# Altium integrated library Linear Technology Power Management Power-Over-Ethernet (PoE) Interface Controllers.IntLib: 174 symbols (part 1 of 16)
Pins are listed as number, name and electrical type; pins without a type are passive.

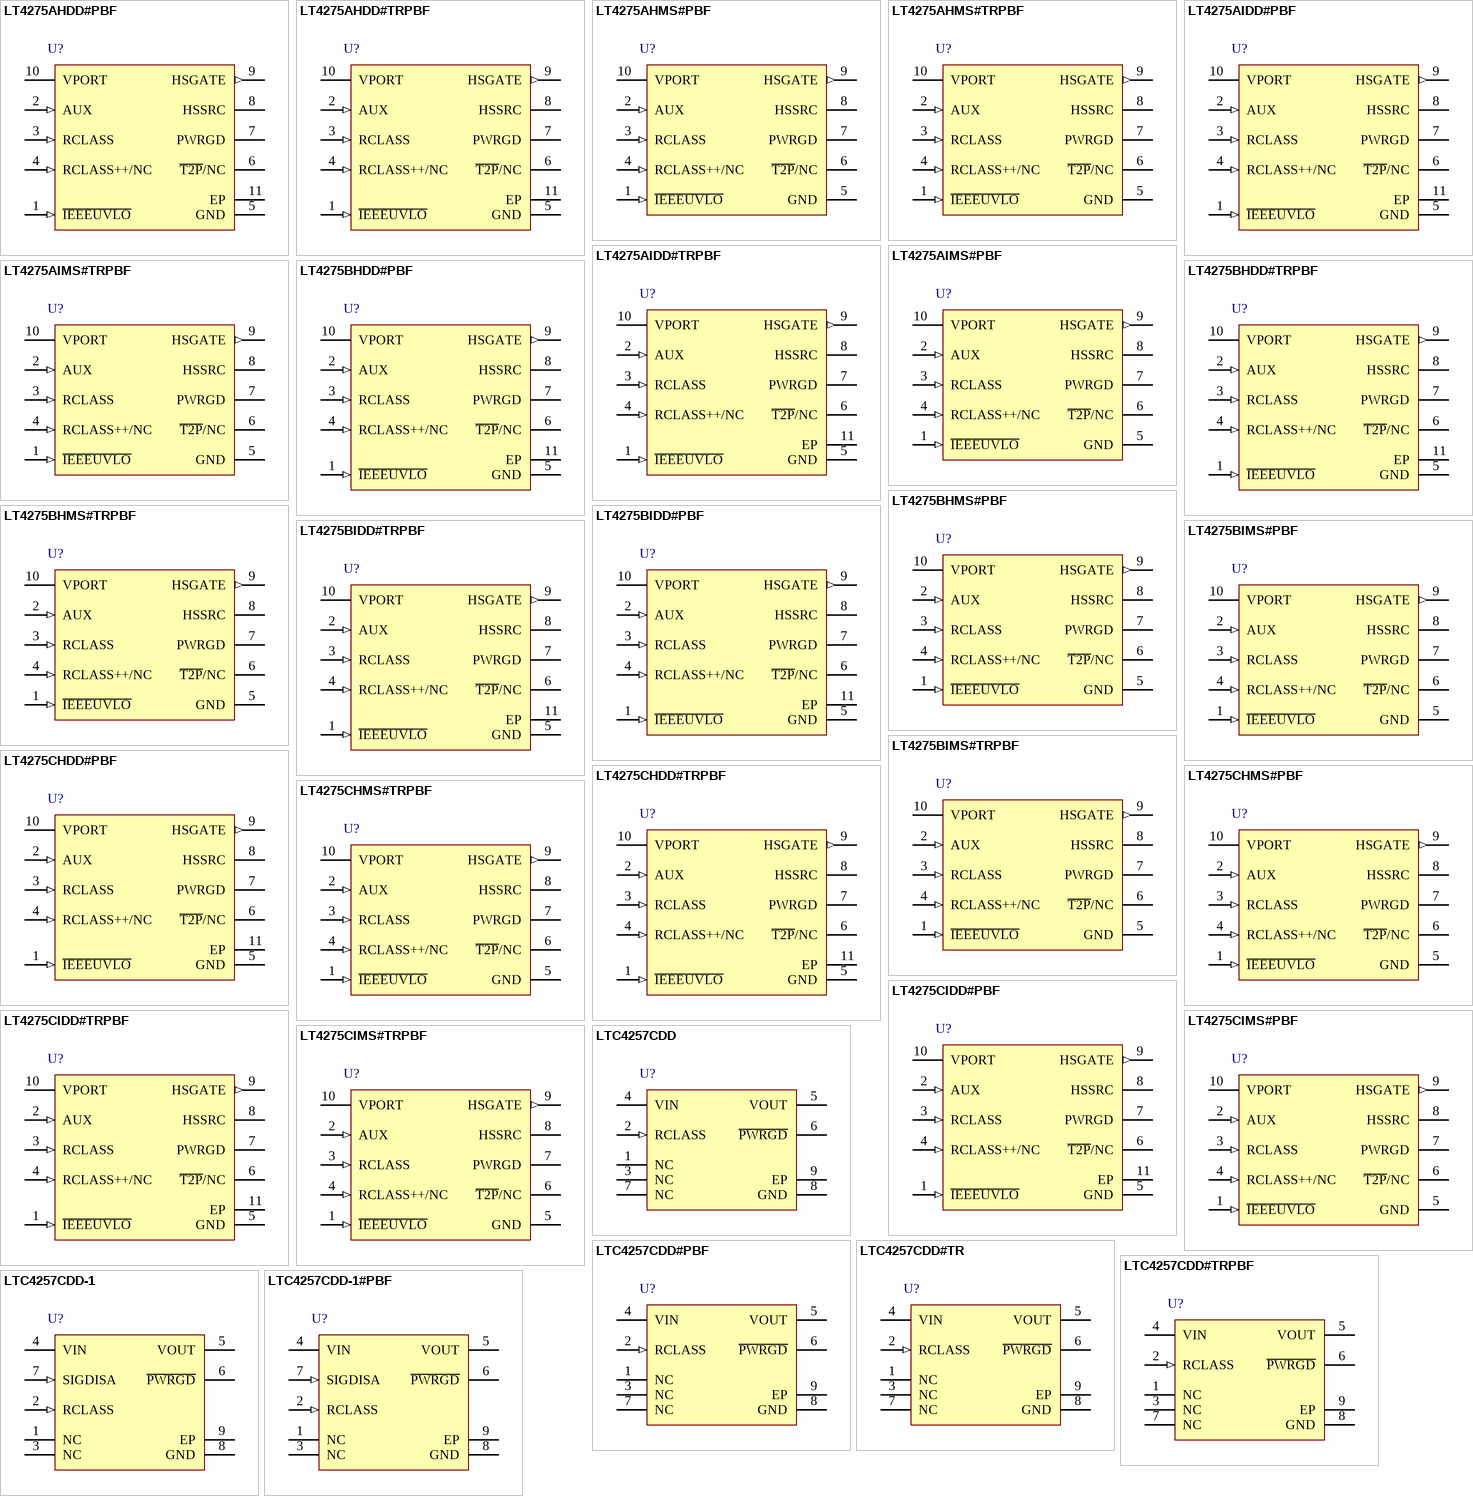
[diagram p0: symbols LT4275AHDD#PBF to LTC4257CDD-1#PBF]

## LT4275AHDD#PBF
designator U?
LTPoE++ / PoE+ / PoE PD Controller, 10-pin SON (DD-10), -40 to 125 degC, Pb-Free; Manufacturer: Linear Technology; PartNumber: LT4275AHDD#PBF; Channels(#): 1; Extended Temp: I, H; Max Power(W): 90; PoE Type: 1, 2, LTPoE++; PackageVersion: Rev. C, 06/2010; PackageReference: DD-10; PackageDescription: 10-Pin Plastic DFN, Body 3 x 3 mm, Pitch 0.5 mm; Supplier 1: Digi-Key; Supplier Part Number 1: LT4275AHDD#PBF-ND; Supplier 2: Newark; Supplier Part Number 2: 27W9561; PSE/PD: PD; RoHS: TRUE; Mounting Technology: Surface Mount; Code_JEDEC: MO-229; ComponentLink1Description: Manufacturer URL; ComponentLink1URL: http://www.linear.com/; ComponentLink2Description: Datasheet; ComponentLink2URL: http://cds.linear.com/docs/en/datasheet/4275f.pdf; ComponentLink3Description: Package Specification; ComponentLink3URL: http://cds.linear.com/docs/en/packaging/DFN_10_05-08-1699.pdf
footprint LT-DD-10_V (SON, 10-Leads, Body 3x3mm, Pitch 0.5mm, Thermal Pad 2.38x1.65mm)
pins: 1 ~{IEEEUVLO} (in) "I\E\E\E\U\V\L\O\ (Pin 1): Hot Swap Turn-on Threshold Level Control. Connect to ground for IEEE compliant turn-on and turn-off (UVLO) voltage thresholds. Leave open for lower turn-on and turn-off voltage thresholds.", 2 AUX (in) "AUX (Pin 2): Auxiliary Sense. Assert AUX via a resistive divider from the auxiliary power input to set the voltage at which the auxiliary supply takes over. Asserting AUX pulls down HSGATE, disconnects the signature (See Datasheet)", 3 RCLASS (in) "RCLASS (Pin 3): Programmable PoE Classification Resistor. See Table 1.", 4 RCLASS++/NC (in) "RCLASS++ (Pin 4, LT4275A Only): Programmable LTPoE++ Classification Resistor. This pin is not connected on the LT4275B/LT4275C. See Table 1.", 5 GND (power) "GND (Pin 5): Ground Pin. Must be soldered to PCB GND.", 6 ~{T2P}/NC (oc) "T\2\P\ (Pin 6, LT4275A/LT4275B Only): PSE Type Indicator, Open-Drain Output. T\2\P\ floats for a 13W PSE. T\2\P\ pulls down for a 25.5W PSE. T\2\P\ pulls down at fT\2\P\ with a 50% (typical) duty cycle to indicate the (See Datasheet)", 7 PWRGD (oc) "PWRGD (Pin 7): Power Good Indicator, Open-Drain Output. Pulls down during VCLASS and inrush.", 8 HSSRC "HSSRC (Pin 8): External Hot Swap MOSFET Source. Connect to source of the external MOSFET.", 9 HSGATE (out) "HSGATE (Pin 9): External Hot Swap MOSFET Gate Control, Output. Connect to gate of the external MOSFET.", 10 VPORT (power) "VPORT (Pin 10): PD interface upper power rail and external Hot Swap MOSFET drain connection.", 11 EP (power) "Exposed Pad (Pin 11, DFN Package Only): GND. Must be soldered to PCB GND."

## LT4275AHDD#TRPBF
designator U?
LTPoE++ / PoE+ / PoE PD Controller, 10-pin SON (DD-10), -40 to 125 degC, Pb-Free, Tape and Reel; Manufacturer: Linear Technology; PartNumber: LT4275AHDD#TRPBF; Channels(#): 1; Extended Temp: I, H; Max Power(W): 90; PoE Type: 1, 2, LTPoE++; PackageVersion: Rev. C, 06/2010; PackageReference: DD-10; PackageDescription: 10-Pin Plastic DFN, Body 3 x 3 mm, Pitch 0.5 mm; Supplier 1: Digi-Key; Supplier Part Number 1: LT4275AHDD#TRPBF-ND; Supplier 2: Newark; Supplier Part Number 2: 27W9562; Packing: Tape and Reel; PSE/PD: PD; RoHS: TRUE; Mounting Technology: Surface Mount; Code_JEDEC: MO-229; ComponentLink1Description: Manufacturer URL; ComponentLink1URL: http://www.linear.com/; ComponentLink2Description: Datasheet; ComponentLink2URL: http://cds.linear.com/docs/en/datasheet/4275f.pdf; ComponentLink3Description: Package Specification; ComponentLink3URL: http://cds.linear.com/docs/en/packaging/DFN_10_05-08-1699.pdf
footprint LT-DD-10_V (SON, 10-Leads, Body 3x3mm, Pitch 0.5mm, Thermal Pad 2.38x1.65mm)
pins: 1 ~{IEEEUVLO} (in) "I\E\E\E\U\V\L\O\ (Pin 1): Hot Swap Turn-on Threshold Level Control. Connect to ground for IEEE compliant turn-on and turn-off (UVLO) voltage thresholds. Leave open for lower turn-on and turn-off voltage thresholds.", 2 AUX (in) "AUX (Pin 2): Auxiliary Sense. Assert AUX via a resistive divider from the auxiliary power input to set the voltage at which the auxiliary supply takes over. Asserting AUX pulls down HSGATE, disconnects the signature (See Datasheet)", 3 RCLASS (in) "RCLASS (Pin 3): Programmable PoE Classification Resistor. See Table 1.", 4 RCLASS++/NC (in) "RCLASS++ (Pin 4, LT4275A Only): Programmable LTPoE++ Classification Resistor. This pin is not connected on the LT4275B/LT4275C. See Table 1.", 5 GND (power) "GND (Pin 5): Ground Pin. Must be soldered to PCB GND.", 6 ~{T2P}/NC (oc) "T\2\P\ (Pin 6, LT4275A/LT4275B Only): PSE Type Indicator, Open-Drain Output. T\2\P\ floats for a 13W PSE. T\2\P\ pulls down for a 25.5W PSE. T\2\P\ pulls down at fT\2\P\ with a 50% (typical) duty cycle to indicate the (See Datasheet)", 7 PWRGD (oc) "PWRGD (Pin 7): Power Good Indicator, Open-Drain Output. Pulls down during VCLASS and inrush.", 8 HSSRC "HSSRC (Pin 8): External Hot Swap MOSFET Source. Connect to source of the external MOSFET.", 9 HSGATE (out) "HSGATE (Pin 9): External Hot Swap MOSFET Gate Control, Output. Connect to gate of the external MOSFET.", 10 VPORT (power) "VPORT (Pin 10): PD interface upper power rail and external Hot Swap MOSFET drain connection.", 11 EP (power) "Exposed Pad (Pin 11, DFN Package Only): GND. Must be soldered to PCB GND."

## LT4275AHMS#PBF
designator U?
LTPoE++ / PoE+ / PoE PD Controller, 10-pin SOP (MS-10), -40 to 125 degC, Pb-Free; Manufacturer: Linear Technology; PartNumber: LT4275AHMS#PBF; Channels(#): 1; Extended Temp: I, H; Max Power(W): 90; PoE Type: 1, 2, LTPoE++; PackageVersion: Rev. E, 06/2010; PackageReference: MS-10; PackageDescription: 10-Pin Plastic MSOP, Body 3 x 3 mm, Pitch 0.5 mm; Supplier 1: Digi-Key; Supplier Part Number 1: LT4275AHMS#PBF-ND; Supplier 2: Newark; Supplier Part Number 2: 27W9563; PSE/PD: PD; RoHS: TRUE; Mounting Technology: Surface Mount; ComponentLink1Description: Manufacturer URL; ComponentLink1URL: http://www.linear.com/; ComponentLink2Description: Datasheet; ComponentLink2URL: http://cds.linear.com/docs/en/datasheet/4275f.pdf; ComponentLink3Description: Package Specification; ComponentLink3URL: http://cds.linear.com/docs/en/packaging/05081661_F_MS.pdf
footprint LT-MS-10_N (SOP, 10-Leads, Body 3.1x3.1mm, Pitch 0.5mm, IPC Medium Density)
footprint LT-MS-10_L (SOP, 10-Leads, Body 3.1x3.1mm, Pitch 0.5mm, IPC High Density)
footprint LT-MS-10_M (SOP, 10-Leads, Body 3.1x3.1mm, Pitch 0.5mm, IPC Low Density)
pins: 1 ~{IEEEUVLO} (in) "IEEEUVLO (Pin 1): Hot Swap Turn-on Threshold Level Control. Connect to ground for IEEE compliant turn-on and turn-off (UVLO) voltage thresholds. Leave open for lower turn-on and turn-off voltage thresholds.", 2 AUX (in) "AUX (Pin 2): Auxiliary Sense. Assert AUX via a resistive divider from the auxiliary power input to set the voltage at which the auxiliary supply takes over. Asserting AUX pulls down HSGATE, disconnects the signature (See Datasheet)", 3 RCLASS (in) "RCLASS (Pin 3): Programmable PoE Classification Resistor. See Table 1.", 4 RCLASS++/NC (in) "RCLASS++ (Pin 4, LT4275A Only): Programmable LTPoE++ Classification Resistor. This pin is not connected on the LT4275B/LT4275C. See Table 1.", 5 GND (power) "GND (Pin 5): Ground Pin. Must be soldered to PCB GND.", 6 ~{T2P}/NC (oc) "T\2\P\ (Pin 6, LT4275A/LT4275B Only): PSE Type Indicator, Open-Drain Output. T\2\P\ floats for a 13W PSE. T\2\P\ pulls down for a 25.5W PSE. T\2\P\ pulls down at fT\2\P\ with a 50% (typical) duty cycle to indicate the (See Datasheet)", 7 PWRGD (oc) "PWRGD (Pin 7): Power Good Indicator, Open-Drain Output. Pulls down during VCLASS and inrush.", 8 HSSRC "HSSRC (Pin 8): External Hot Swap MOSFET Source. Connect to source of the external MOSFET.", 9 HSGATE (out) "HSGATE (Pin 9): External Hot Swap MOSFET Gate Control, Output. Connect to gate of the external MOSFET.", 10 VPORT (power) "VPORT (Pin 10): PD interface upper power rail and external Hot Swap MOSFET drain connection."

## LT4275AHMS#TRPBF
designator U?
LTPoE++ / PoE+ / PoE PD Controller, 10-pin SOP (MS-10), -40 to 125 degC, Pb-Free, Tape and Reel; Manufacturer: Linear Technology; PartNumber: LT4275AHMS#TRPBF; Channels(#): 1; Extended Temp: I, H; Max Power(W): 90; PoE Type: 1, 2, LTPoE++; PackageVersion: Rev. E, 06/2010; PackageReference: MS-10; PackageDescription: 10-Pin Plastic MSOP, Body 3 x 3 mm, Pitch 0.5 mm; Supplier 1: Digi-Key; Supplier Part Number 1: LT4275AHMS#TRPBF-ND; Supplier 2: Newark; Supplier Part Number 2: 27W9564; Packing: Tape and Reel; PSE/PD: PD; RoHS: TRUE; Mounting Technology: Surface Mount; ComponentLink1Description: Manufacturer URL; ComponentLink1URL: http://www.linear.com/; ComponentLink2Description: Datasheet; ComponentLink2URL: http://cds.linear.com/docs/en/datasheet/4275f.pdf; ComponentLink3Description: Package Specification; ComponentLink3URL: http://cds.linear.com/docs/en/packaging/05081661_F_MS.pdf
footprint LT-MS-10_N (SOP, 10-Leads, Body 3.1x3.1mm, Pitch 0.5mm, IPC Medium Density)
footprint LT-MS-10_L (SOP, 10-Leads, Body 3.1x3.1mm, Pitch 0.5mm, IPC High Density)
footprint LT-MS-10_M (SOP, 10-Leads, Body 3.1x3.1mm, Pitch 0.5mm, IPC Low Density)
pins: 1 ~{IEEEUVLO} (in) "IEEEUVLO (Pin 1): Hot Swap Turn-on Threshold Level Control. Connect to ground for IEEE compliant turn-on and turn-off (UVLO) voltage thresholds. Leave open for lower turn-on and turn-off voltage thresholds.", 2 AUX (in) "AUX (Pin 2): Auxiliary Sense. Assert AUX via a resistive divider from the auxiliary power input to set the voltage at which the auxiliary supply takes over. Asserting AUX pulls down HSGATE, disconnects the signature (See Datasheet)", 3 RCLASS (in) "RCLASS (Pin 3): Programmable PoE Classification Resistor. See Table 1.", 4 RCLASS++/NC (in) "RCLASS++ (Pin 4, LT4275A Only): Programmable LTPoE++ Classification Resistor. This pin is not connected on the LT4275B/LT4275C. See Table 1.", 5 GND (power) "GND (Pin 5): Ground Pin. Must be soldered to PCB GND.", 6 ~{T2P}/NC (oc) "T\2\P\ (Pin 6, LT4275A/LT4275B Only): PSE Type Indicator, Open-Drain Output. T\2\P\ floats for a 13W PSE. T\2\P\ pulls down for a 25.5W PSE. T\2\P\ pulls down at fT\2\P\ with a 50% (typical) duty cycle to indicate the (See Datasheet)", 7 PWRGD (oc) "PWRGD (Pin 7): Power Good Indicator, Open-Drain Output. Pulls down during VCLASS and inrush.", 8 HSSRC "HSSRC (Pin 8): External Hot Swap MOSFET Source. Connect to source of the external MOSFET.", 9 HSGATE (out) "HSGATE (Pin 9): External Hot Swap MOSFET Gate Control, Output. Connect to gate of the external MOSFET.", 10 VPORT (power) "VPORT (Pin 10): PD interface upper power rail and external Hot Swap MOSFET drain connection."

## LT4275AIDD#PBF
designator U?
LTPoE++ / PoE+ / PoE PD Controller, 10-pin SON (DD-10), -40 to 85 degC, Pb-Free; Manufacturer: Linear Technology; PartNumber: LT4275AIDD#PBF; Channels(#): 1; Extended Temp: I, H; Max Power(W): 90; PoE Type: 1, 2, LTPoE++; PackageVersion: Rev. C, 06/2010; PackageReference: DD-10; PackageDescription: 10-Pin Plastic DFN, Body 3 x 3 mm, Pitch 0.5 mm; Supplier 1: Digi-Key; Supplier Part Number 1: LT4275AIDD#PBF-ND; Supplier 2: Farnell; Supplier Part Number 2: 2148740; Supplier 3: Newark; Supplier Part Number 3: 27W9565; PSE/PD: PD; RoHS: TRUE; Mounting Technology: Surface Mount; Code_JEDEC: MO-229; ComponentLink1Description: Manufacturer URL; ComponentLink1URL: http://www.linear.com/; ComponentLink2Description: Datasheet; ComponentLink2URL: http://cds.linear.com/docs/en/datasheet/4275f.pdf; ComponentLink3Description: Package Specification; ComponentLink3URL: http://cds.linear.com/docs/en/packaging/DFN_10_05-08-1699.pdf
footprint LT-DD-10_V (SON, 10-Leads, Body 3x3mm, Pitch 0.5mm, Thermal Pad 2.38x1.65mm)
pins: 1 ~{IEEEUVLO} (in) "I\E\E\E\U\V\L\O\ (Pin 1): Hot Swap Turn-on Threshold Level Control. Connect to ground for IEEE compliant turn-on and turn-off (UVLO) voltage thresholds. Leave open for lower turn-on and turn-off voltage thresholds.", 2 AUX (in) "AUX (Pin 2): Auxiliary Sense. Assert AUX via a resistive divider from the auxiliary power input to set the voltage at which the auxiliary supply takes over. Asserting AUX pulls down HSGATE, disconnects the signature (See Datasheet)", 3 RCLASS (in) "RCLASS (Pin 3): Programmable PoE Classification Resistor. See Table 1.", 4 RCLASS++/NC (in) "RCLASS++ (Pin 4, LT4275A Only): Programmable LTPoE++ Classification Resistor. This pin is not connected on the LT4275B/LT4275C. See Table 1.", 5 GND (power) "GND (Pin 5): Ground Pin. Must be soldered to PCB GND.", 6 ~{T2P}/NC (oc) "T\2\P\ (Pin 6, LT4275A/LT4275B Only): PSE Type Indicator, Open-Drain Output. T\2\P\ floats for a 13W PSE. T\2\P\ pulls down for a 25.5W PSE. T\2\P\ pulls down at fT\2\P\ with a 50% (typical) duty cycle to indicate the (See Datasheet)", 7 PWRGD (oc) "PWRGD (Pin 7): Power Good Indicator, Open-Drain Output. Pulls down during VCLASS and inrush.", 8 HSSRC "HSSRC (Pin 8): External Hot Swap MOSFET Source. Connect to source of the external MOSFET.", 9 HSGATE (out) "HSGATE (Pin 9): External Hot Swap MOSFET Gate Control, Output. Connect to gate of the external MOSFET.", 10 VPORT (power) "VPORT (Pin 10): PD interface upper power rail and external Hot Swap MOSFET drain connection.", 11 EP (power) "Exposed Pad (Pin 11, DFN Package Only): GND. Must be soldered to PCB GND."

## LT4275AIDD#TRPBF
designator U?
LTPoE++ / PoE+ / PoE PD Controller, 10-pin SON (DD-10), -40 to 85 degC, Pb-Free, Tape and Reel; Manufacturer: Linear Technology; PartNumber: LT4275AIDD#TRPBF; Channels(#): 1; Extended Temp: I, H; Max Power(W): 90; PoE Type: 1, 2, LTPoE++; PackageVersion: Rev. C, 06/2010; PackageReference: DD-10; PackageDescription: 10-Pin Plastic DFN, Body 3 x 3 mm, Pitch 0.5 mm; Supplier 1: Digi-Key; Supplier Part Number 1: LT4275AIDD#TRPBF-ND; Supplier 2: Newark; Supplier Part Number 2: 27W9566; Packing: Tape and Reel; PSE/PD: PD; RoHS: TRUE; Mounting Technology: Surface Mount; Code_JEDEC: MO-229; ComponentLink1Description: Manufacturer URL; ComponentLink1URL: http://www.linear.com/; ComponentLink2Description: Datasheet; ComponentLink2URL: http://cds.linear.com/docs/en/datasheet/4275f.pdf; ComponentLink3Description: Package Specification; ComponentLink3URL: http://cds.linear.com/docs/en/packaging/DFN_10_05-08-1699.pdf
footprint LT-DD-10_V (SON, 10-Leads, Body 3x3mm, Pitch 0.5mm, Thermal Pad 2.38x1.65mm)
pins: 1 ~{IEEEUVLO} (in) "I\E\E\E\U\V\L\O\ (Pin 1): Hot Swap Turn-on Threshold Level Control. Connect to ground for IEEE compliant turn-on and turn-off (UVLO) voltage thresholds. Leave open for lower turn-on and turn-off voltage thresholds.", 2 AUX (in) "AUX (Pin 2): Auxiliary Sense. Assert AUX via a resistive divider from the auxiliary power input to set the voltage at which the auxiliary supply takes over. Asserting AUX pulls down HSGATE, disconnects the signature (See Datasheet)", 3 RCLASS (in) "RCLASS (Pin 3): Programmable PoE Classification Resistor. See Table 1.", 4 RCLASS++/NC (in) "RCLASS++ (Pin 4, LT4275A Only): Programmable LTPoE++ Classification Resistor. This pin is not connected on the LT4275B/LT4275C. See Table 1.", 5 GND (power) "GND (Pin 5): Ground Pin. Must be soldered to PCB GND.", 6 ~{T2P}/NC (oc) "T\2\P\ (Pin 6, LT4275A/LT4275B Only): PSE Type Indicator, Open-Drain Output. T\2\P\ floats for a 13W PSE. T\2\P\ pulls down for a 25.5W PSE. T\2\P\ pulls down at fT\2\P\ with a 50% (typical) duty cycle to indicate the (See Datasheet)", 7 PWRGD (oc) "PWRGD (Pin 7): Power Good Indicator, Open-Drain Output. Pulls down during VCLASS and inrush.", 8 HSSRC "HSSRC (Pin 8): External Hot Swap MOSFET Source. Connect to source of the external MOSFET.", 9 HSGATE (out) "HSGATE (Pin 9): External Hot Swap MOSFET Gate Control, Output. Connect to gate of the external MOSFET.", 10 VPORT (power) "VPORT (Pin 10): PD interface upper power rail and external Hot Swap MOSFET drain connection.", 11 EP (power) "Exposed Pad (Pin 11, DFN Package Only): GND. Must be soldered to PCB GND."

## LT4275AIMS#PBF
designator U?
LTPoE++ / PoE+ / PoE PD Controller, 10-pin SOP (MS-10), -40 to 85 degC, Pb-Free; Manufacturer: Linear Technology; PartNumber: LT4275AIMS#PBF; Channels(#): 1; Extended Temp: I, H; Max Power(W): 90; PoE Type: 1, 2, LTPoE++; PackageVersion: Rev. E, 06/2010; PackageReference: MS-10; PackageDescription: 10-Pin Plastic MSOP, Body 3 x 3 mm, Pitch 0.5 mm; Supplier 1: Digi-Key; Supplier Part Number 1: LT4275AIMS#PBF-ND; Supplier 2: Farnell; Supplier Part Number 2: 2148741; Supplier 3: Newark; Supplier Part Number 3: 27W9567; PSE/PD: PD; RoHS: TRUE; Mounting Technology: Surface Mount; ComponentLink1Description: Manufacturer URL; ComponentLink1URL: http://www.linear.com/; ComponentLink2Description: Datasheet; ComponentLink2URL: http://cds.linear.com/docs/en/datasheet/4275f.pdf; ComponentLink3Description: Package Specification; ComponentLink3URL: http://cds.linear.com/docs/en/packaging/05081661_F_MS.pdf
footprint LT-MS-10_N (SOP, 10-Leads, Body 3.1x3.1mm, Pitch 0.5mm, IPC Medium Density)
footprint LT-MS-10_L (SOP, 10-Leads, Body 3.1x3.1mm, Pitch 0.5mm, IPC High Density)
footprint LT-MS-10_M (SOP, 10-Leads, Body 3.1x3.1mm, Pitch 0.5mm, IPC Low Density)
pins: 1 ~{IEEEUVLO} (in) "IEEEUVLO (Pin 1): Hot Swap Turn-on Threshold Level Control. Connect to ground for IEEE compliant turn-on and turn-off (UVLO) voltage thresholds. Leave open for lower turn-on and turn-off voltage thresholds.", 2 AUX (in) "AUX (Pin 2): Auxiliary Sense. Assert AUX via a resistive divider from the auxiliary power input to set the voltage at which the auxiliary supply takes over. Asserting AUX pulls down HSGATE, disconnects the signature (See Datasheet)", 3 RCLASS (in) "RCLASS (Pin 3): Programmable PoE Classification Resistor. See Table 1.", 4 RCLASS++/NC (in) "RCLASS++ (Pin 4, LT4275A Only): Programmable LTPoE++ Classification Resistor. This pin is not connected on the LT4275B/LT4275C. See Table 1.", 5 GND (power) "GND (Pin 5): Ground Pin. Must be soldered to PCB GND.", 6 ~{T2P}/NC (oc) "T\2\P\ (Pin 6, LT4275A/LT4275B Only): PSE Type Indicator, Open-Drain Output. T\2\P\ floats for a 13W PSE. T\2\P\ pulls down for a 25.5W PSE. T\2\P\ pulls down at fT\2\P\ with a 50% (typical) duty cycle to indicate the (See Datasheet)", 7 PWRGD (oc) "PWRGD (Pin 7): Power Good Indicator, Open-Drain Output. Pulls down during VCLASS and inrush.", 8 HSSRC "HSSRC (Pin 8): External Hot Swap MOSFET Source. Connect to source of the external MOSFET.", 9 HSGATE (out) "HSGATE (Pin 9): External Hot Swap MOSFET Gate Control, Output. Connect to gate of the external MOSFET.", 10 VPORT (power) "VPORT (Pin 10): PD interface upper power rail and external Hot Swap MOSFET drain connection."

## LT4275AIMS#TRPBF
designator U?
LTPoE++ / PoE+ / PoE PD Controller, 10-pin SOP (MS-10), -40 to 85 degC, Pb-Free, Tape and Reel; Manufacturer: Linear Technology; PartNumber: LT4275AIMS#TRPBF; Channels(#): 1; Extended Temp: I, H; Max Power(W): 90; PoE Type: 1, 2, LTPoE++; PackageVersion: Rev. E, 06/2010; PackageReference: MS-10; PackageDescription: 10-Pin Plastic MSOP, Body 3 x 3 mm, Pitch 0.5 mm; Supplier 1: Digi-Key; Supplier Part Number 1: LT4275AIMS#TRPBF-ND; Supplier 2: Newark; Supplier Part Number 2: 27W9568; Packing: Tape and Reel; PSE/PD: PD; RoHS: TRUE; Mounting Technology: Surface Mount; ComponentLink1Description: Manufacturer URL; ComponentLink1URL: http://www.linear.com/; ComponentLink2Description: Datasheet; ComponentLink2URL: http://cds.linear.com/docs/en/datasheet/4275f.pdf; ComponentLink3Description: Package Specification; ComponentLink3URL: http://cds.linear.com/docs/en/packaging/05081661_F_MS.pdf
footprint LT-MS-10_N (SOP, 10-Leads, Body 3.1x3.1mm, Pitch 0.5mm, IPC Medium Density)
footprint LT-MS-10_L (SOP, 10-Leads, Body 3.1x3.1mm, Pitch 0.5mm, IPC High Density)
footprint LT-MS-10_M (SOP, 10-Leads, Body 3.1x3.1mm, Pitch 0.5mm, IPC Low Density)
pins: 1 ~{IEEEUVLO} (in) "IEEEUVLO (Pin 1): Hot Swap Turn-on Threshold Level Control. Connect to ground for IEEE compliant turn-on and turn-off (UVLO) voltage thresholds. Leave open for lower turn-on and turn-off voltage thresholds.", 2 AUX (in) "AUX (Pin 2): Auxiliary Sense. Assert AUX via a resistive divider from the auxiliary power input to set the voltage at which the auxiliary supply takes over. Asserting AUX pulls down HSGATE, disconnects the signature (See Datasheet)", 3 RCLASS (in) "RCLASS (Pin 3): Programmable PoE Classification Resistor. See Table 1.", 4 RCLASS++/NC (in) "RCLASS++ (Pin 4, LT4275A Only): Programmable LTPoE++ Classification Resistor. This pin is not connected on the LT4275B/LT4275C. See Table 1.", 5 GND (power) "GND (Pin 5): Ground Pin. Must be soldered to PCB GND.", 6 ~{T2P}/NC (oc) "T\2\P\ (Pin 6, LT4275A/LT4275B Only): PSE Type Indicator, Open-Drain Output. T\2\P\ floats for a 13W PSE. T\2\P\ pulls down for a 25.5W PSE. T\2\P\ pulls down at fT\2\P\ with a 50% (typical) duty cycle to indicate the (See Datasheet)", 7 PWRGD (oc) "PWRGD (Pin 7): Power Good Indicator, Open-Drain Output. Pulls down during VCLASS and inrush.", 8 HSSRC "HSSRC (Pin 8): External Hot Swap MOSFET Source. Connect to source of the external MOSFET.", 9 HSGATE (out) "HSGATE (Pin 9): External Hot Swap MOSFET Gate Control, Output. Connect to gate of the external MOSFET.", 10 VPORT (power) "VPORT (Pin 10): PD interface upper power rail and external Hot Swap MOSFET drain connection."

## LT4275BHDD#PBF
designator U?
LTPoE++ / PoE+ / PoE PD Controller, 10-pin SON (DD-10), -40 to 125 degC, Pb-Free; Manufacturer: Linear Technology; PartNumber: LT4275BHDD#PBF; Channels(#): 1; Extended Temp: I, H; Max Power(W): 90; PoE Type: 1, 2, LTPoE++; PackageVersion: Rev. C, 06/2010; PackageReference: DD-10; PackageDescription: 10-Pin Plastic DFN, Body 3 x 3 mm, Pitch 0.5 mm; Supplier 1: Digi-Key; Supplier Part Number 1: LT4275BHDD#PBF-ND; Supplier 2: Newark; Supplier Part Number 2: 27W9569; PSE/PD: PD; RoHS: TRUE; Mounting Technology: Surface Mount; Code_JEDEC: MO-229; ComponentLink1Description: Manufacturer URL; ComponentLink1URL: http://www.linear.com/; ComponentLink2Description: Datasheet; ComponentLink2URL: http://cds.linear.com/docs/en/datasheet/4275f.pdf; ComponentLink3Description: Package Specification; ComponentLink3URL: http://cds.linear.com/docs/en/packaging/DFN_10_05-08-1699.pdf
footprint LT-DD-10_V (SON, 10-Leads, Body 3x3mm, Pitch 0.5mm, Thermal Pad 2.38x1.65mm)
pins: 1 ~{IEEEUVLO} (in) "I\E\E\E\U\V\L\O\ (Pin 1): Hot Swap Turn-on Threshold Level Control. Connect to ground for IEEE compliant turn-on and turn-off (UVLO) voltage thresholds. Leave open for lower turn-on and turn-off voltage thresholds.", 2 AUX (in) "AUX (Pin 2): Auxiliary Sense. Assert AUX via a resistive divider from the auxiliary power input to set the voltage at which the auxiliary supply takes over. Asserting AUX pulls down HSGATE, disconnects the signature (See Datasheet)", 3 RCLASS (in) "RCLASS (Pin 3): Programmable PoE Classification Resistor. See Table 1.", 4 RCLASS++/NC (in) "RCLASS++ (Pin 4, LT4275A Only): Programmable LTPoE++ Classification Resistor. This pin is not connected on the LT4275B/LT4275C. See Table 1.", 5 GND (power) "GND (Pin 5): Ground Pin. Must be soldered to PCB GND.", 6 ~{T2P}/NC (oc) "T\2\P\ (Pin 6, LT4275A/LT4275B Only): PSE Type Indicator, Open-Drain Output. T\2\P\ floats for a 13W PSE. T\2\P\ pulls down for a 25.5W PSE. T\2\P\ pulls down at fT\2\P\ with a 50% (typical) duty cycle to indicate the (See Datasheet)", 7 PWRGD (oc) "PWRGD (Pin 7): Power Good Indicator, Open-Drain Output. Pulls down during VCLASS and inrush.", 8 HSSRC "HSSRC (Pin 8): External Hot Swap MOSFET Source. Connect to source of the external MOSFET.", 9 HSGATE (out) "HSGATE (Pin 9): External Hot Swap MOSFET Gate Control, Output. Connect to gate of the external MOSFET.", 10 VPORT (power) "VPORT (Pin 10): PD interface upper power rail and external Hot Swap MOSFET drain connection.", 11 EP (power) "Exposed Pad (Pin 11, DFN Package Only): GND. Must be soldered to PCB GND."

## LT4275BHDD#TRPBF
designator U?
LTPoE++ / PoE+ / PoE PD Controller, 10-pin SON (DD-10), -40 to 125 degC, Pb-Free, Tape and Reel; Manufacturer: Linear Technology; PartNumber: LT4275BHDD#TRPBF; Channels(#): 1; Extended Temp: I, H; Max Power(W): 90; PoE Type: 1, 2, LTPoE++; PackageVersion: Rev. C, 06/2010; PackageReference: DD-10; PackageDescription: 10-Pin Plastic DFN, Body 3 x 3 mm, Pitch 0.5 mm; Supplier 1: Digi-Key; Supplier Part Number 1: LT4275BHDD#TRPBF-ND; Supplier 2: Newark; Supplier Part Number 2: 27W9570; Packing: Tape and Reel; PSE/PD: PD; RoHS: TRUE; Mounting Technology: Surface Mount; Code_JEDEC: MO-229; ComponentLink1Description: Manufacturer URL; ComponentLink1URL: http://www.linear.com/; ComponentLink2Description: Datasheet; ComponentLink2URL: http://cds.linear.com/docs/en/datasheet/4275f.pdf; ComponentLink3Description: Package Specification; ComponentLink3URL: http://cds.linear.com/docs/en/packaging/DFN_10_05-08-1699.pdf
footprint LT-DD-10_V (SON, 10-Leads, Body 3x3mm, Pitch 0.5mm, Thermal Pad 2.38x1.65mm)
pins: 1 ~{IEEEUVLO} (in) "I\E\E\E\U\V\L\O\ (Pin 1): Hot Swap Turn-on Threshold Level Control. Connect to ground for IEEE compliant turn-on and turn-off (UVLO) voltage thresholds. Leave open for lower turn-on and turn-off voltage thresholds.", 2 AUX (in) "AUX (Pin 2): Auxiliary Sense. Assert AUX via a resistive divider from the auxiliary power input to set the voltage at which the auxiliary supply takes over. Asserting AUX pulls down HSGATE, disconnects the signature (See Datasheet)", 3 RCLASS (in) "RCLASS (Pin 3): Programmable PoE Classification Resistor. See Table 1.", 4 RCLASS++/NC (in) "RCLASS++ (Pin 4, LT4275A Only): Programmable LTPoE++ Classification Resistor. This pin is not connected on the LT4275B/LT4275C. See Table 1.", 5 GND (power) "GND (Pin 5): Ground Pin. Must be soldered to PCB GND.", 6 ~{T2P}/NC (oc) "T\2\P\ (Pin 6, LT4275A/LT4275B Only): PSE Type Indicator, Open-Drain Output. T\2\P\ floats for a 13W PSE. T\2\P\ pulls down for a 25.5W PSE. T\2\P\ pulls down at fT\2\P\ with a 50% (typical) duty cycle to indicate the (See Datasheet)", 7 PWRGD (oc) "PWRGD (Pin 7): Power Good Indicator, Open-Drain Output. Pulls down during VCLASS and inrush.", 8 HSSRC "HSSRC (Pin 8): External Hot Swap MOSFET Source. Connect to source of the external MOSFET.", 9 HSGATE (out) "HSGATE (Pin 9): External Hot Swap MOSFET Gate Control, Output. Connect to gate of the external MOSFET.", 10 VPORT (power) "VPORT (Pin 10): PD interface upper power rail and external Hot Swap MOSFET drain connection.", 11 EP (power) "Exposed Pad (Pin 11, DFN Package Only): GND. Must be soldered to PCB GND."

## LT4275BHMS#PBF
designator U?
LTPoE++ / PoE+ / PoE PD Controller, 10-pin SOP (MS-10), -40 to 125 degC, Pb-Free; Manufacturer: Linear Technology; PartNumber: LT4275BHMS#PBF; Channels(#): 1; Extended Temp: I, H; Max Power(W): 90; PoE Type: 1, 2, LTPoE++; PackageVersion: Rev. E, 06/2010; PackageReference: MS-10; PackageDescription: 10-Pin Plastic MSOP, Body 3 x 3 mm, Pitch 0.5 mm; Supplier 1: Digi-Key; Supplier Part Number 1: LT4275BHMS#PBF-ND; Supplier 2: Newark; Supplier Part Number 2: 27W9571; PSE/PD: PD; RoHS: TRUE; Mounting Technology: Surface Mount; ComponentLink1Description: Manufacturer URL; ComponentLink1URL: http://www.linear.com/; ComponentLink2Description: Datasheet; ComponentLink2URL: http://cds.linear.com/docs/en/datasheet/4275f.pdf; ComponentLink3Description: Package Specification; ComponentLink3URL: http://cds.linear.com/docs/en/packaging/05081661_F_MS.pdf
footprint LT-MS-10_N (SOP, 10-Leads, Body 3.1x3.1mm, Pitch 0.5mm, IPC Medium Density)
footprint LT-MS-10_L (SOP, 10-Leads, Body 3.1x3.1mm, Pitch 0.5mm, IPC High Density)
footprint LT-MS-10_M (SOP, 10-Leads, Body 3.1x3.1mm, Pitch 0.5mm, IPC Low Density)
pins: 1 ~{IEEEUVLO} (in) "IEEEUVLO (Pin 1): Hot Swap Turn-on Threshold Level Control. Connect to ground for IEEE compliant turn-on and turn-off (UVLO) voltage thresholds. Leave open for lower turn-on and turn-off voltage thresholds.", 2 AUX (in) "AUX (Pin 2): Auxiliary Sense. Assert AUX via a resistive divider from the auxiliary power input to set the voltage at which the auxiliary supply takes over. Asserting AUX pulls down HSGATE, disconnects the signature (See Datasheet)", 3 RCLASS (in) "RCLASS (Pin 3): Programmable PoE Classification Resistor. See Table 1.", 4 RCLASS++/NC (in) "RCLASS++ (Pin 4, LT4275A Only): Programmable LTPoE++ Classification Resistor. This pin is not connected on the LT4275B/LT4275C. See Table 1.", 5 GND (power) "GND (Pin 5): Ground Pin. Must be soldered to PCB GND.", 6 ~{T2P}/NC (oc) "T\2\P\ (Pin 6, LT4275A/LT4275B Only): PSE Type Indicator, Open-Drain Output. T\2\P\ floats for a 13W PSE. T\2\P\ pulls down for a 25.5W PSE. T\2\P\ pulls down at fT\2\P\ with a 50% (typical) duty cycle to indicate the (See Datasheet)", 7 PWRGD (oc) "PWRGD (Pin 7): Power Good Indicator, Open-Drain Output. Pulls down during VCLASS and inrush.", 8 HSSRC "HSSRC (Pin 8): External Hot Swap MOSFET Source. Connect to source of the external MOSFET.", 9 HSGATE (out) "HSGATE (Pin 9): External Hot Swap MOSFET Gate Control, Output. Connect to gate of the external MOSFET.", 10 VPORT (power) "VPORT (Pin 10): PD interface upper power rail and external Hot Swap MOSFET drain connection."

## LT4275BHMS#TRPBF
designator U?
LTPoE++ / PoE+ / PoE PD Controller, 10-pin SOP (MS-10), -40 to 125 degC, Pb-Free, Tape and Reel; Manufacturer: Linear Technology; PartNumber: LT4275BHMS#TRPBF; Channels(#): 1; Extended Temp: I, H; Max Power(W): 90; PoE Type: 1, 2, LTPoE++; PackageVersion: Rev. E, 06/2010; PackageReference: MS-10; PackageDescription: 10-Pin Plastic MSOP, Body 3 x 3 mm, Pitch 0.5 mm; Supplier 1: Digi-Key; Supplier Part Number 1: LT4275BHMS#TRPBF-ND; Supplier 2: Newark; Supplier Part Number 2: 27W9572; Packing: Tape and Reel; PSE/PD: PD; RoHS: TRUE; Mounting Technology: Surface Mount; ComponentLink1Description: Manufacturer URL; ComponentLink1URL: http://www.linear.com/; ComponentLink2Description: Datasheet; ComponentLink2URL: http://cds.linear.com/docs/en/datasheet/4275f.pdf; ComponentLink3Description: Package Specification; ComponentLink3URL: http://cds.linear.com/docs/en/packaging/05081661_F_MS.pdf
footprint LT-MS-10_N (SOP, 10-Leads, Body 3.1x3.1mm, Pitch 0.5mm, IPC Medium Density)
footprint LT-MS-10_L (SOP, 10-Leads, Body 3.1x3.1mm, Pitch 0.5mm, IPC High Density)
footprint LT-MS-10_M (SOP, 10-Leads, Body 3.1x3.1mm, Pitch 0.5mm, IPC Low Density)
pins: 1 ~{IEEEUVLO} (in) "IEEEUVLO (Pin 1): Hot Swap Turn-on Threshold Level Control. Connect to ground for IEEE compliant turn-on and turn-off (UVLO) voltage thresholds. Leave open for lower turn-on and turn-off voltage thresholds.", 2 AUX (in) "AUX (Pin 2): Auxiliary Sense. Assert AUX via a resistive divider from the auxiliary power input to set the voltage at which the auxiliary supply takes over. Asserting AUX pulls down HSGATE, disconnects the signature (See Datasheet)", 3 RCLASS (in) "RCLASS (Pin 3): Programmable PoE Classification Resistor. See Table 1.", 4 RCLASS++/NC (in) "RCLASS++ (Pin 4, LT4275A Only): Programmable LTPoE++ Classification Resistor. This pin is not connected on the LT4275B/LT4275C. See Table 1.", 5 GND (power) "GND (Pin 5): Ground Pin. Must be soldered to PCB GND.", 6 ~{T2P}/NC (oc) "T\2\P\ (Pin 6, LT4275A/LT4275B Only): PSE Type Indicator, Open-Drain Output. T\2\P\ floats for a 13W PSE. T\2\P\ pulls down for a 25.5W PSE. T\2\P\ pulls down at fT\2\P\ with a 50% (typical) duty cycle to indicate the (See Datasheet)", 7 PWRGD (oc) "PWRGD (Pin 7): Power Good Indicator, Open-Drain Output. Pulls down during VCLASS and inrush.", 8 HSSRC "HSSRC (Pin 8): External Hot Swap MOSFET Source. Connect to source of the external MOSFET.", 9 HSGATE (out) "HSGATE (Pin 9): External Hot Swap MOSFET Gate Control, Output. Connect to gate of the external MOSFET.", 10 VPORT (power) "VPORT (Pin 10): PD interface upper power rail and external Hot Swap MOSFET drain connection."

## LT4275BIDD#PBF
designator U?
LTPoE++ / PoE+ / PoE PD Controller, 10-pin SON (DD-10), -40 to 85 degC, Pb-Free; Manufacturer: Linear Technology; PartNumber: LT4275BIDD#PBF; Channels(#): 1; Extended Temp: I, H; Max Power(W): 90; PoE Type: 1, 2, LTPoE++; PackageVersion: Rev. C, 06/2010; PackageReference: DD-10; PackageDescription: 10-Pin Plastic DFN, Body 3 x 3 mm, Pitch 0.5 mm; Supplier 1: Digi-Key; Supplier Part Number 1: LT4275BIDD#PBF-ND; Supplier 2: Farnell; Supplier Part Number 2: 2148743; Supplier 3: Newark; Supplier Part Number 3: 27W9573; PSE/PD: PD; RoHS: TRUE; Mounting Technology: Surface Mount; Code_JEDEC: MO-229; ComponentLink1Description: Manufacturer URL; ComponentLink1URL: http://www.linear.com/; ComponentLink2Description: Datasheet; ComponentLink2URL: http://cds.linear.com/docs/en/datasheet/4275f.pdf; ComponentLink3Description: Package Specification; ComponentLink3URL: http://cds.linear.com/docs/en/packaging/DFN_10_05-08-1699.pdf
footprint LT-DD-10_V (SON, 10-Leads, Body 3x3mm, Pitch 0.5mm, Thermal Pad 2.38x1.65mm)
pins: 1 ~{IEEEUVLO} (in) "I\E\E\E\U\V\L\O\ (Pin 1): Hot Swap Turn-on Threshold Level Control. Connect to ground for IEEE compliant turn-on and turn-off (UVLO) voltage thresholds. Leave open for lower turn-on and turn-off voltage thresholds.", 2 AUX (in) "AUX (Pin 2): Auxiliary Sense. Assert AUX via a resistive divider from the auxiliary power input to set the voltage at which the auxiliary supply takes over. Asserting AUX pulls down HSGATE, disconnects the signature (See Datasheet)", 3 RCLASS (in) "RCLASS (Pin 3): Programmable PoE Classification Resistor. See Table 1.", 4 RCLASS++/NC (in) "RCLASS++ (Pin 4, LT4275A Only): Programmable LTPoE++ Classification Resistor. This pin is not connected on the LT4275B/LT4275C. See Table 1.", 5 GND (power) "GND (Pin 5): Ground Pin. Must be soldered to PCB GND.", 6 ~{T2P}/NC (oc) "T\2\P\ (Pin 6, LT4275A/LT4275B Only): PSE Type Indicator, Open-Drain Output. T\2\P\ floats for a 13W PSE. T\2\P\ pulls down for a 25.5W PSE. T\2\P\ pulls down at fT\2\P\ with a 50% (typical) duty cycle to indicate the (See Datasheet)", 7 PWRGD (oc) "PWRGD (Pin 7): Power Good Indicator, Open-Drain Output. Pulls down during VCLASS and inrush.", 8 HSSRC "HSSRC (Pin 8): External Hot Swap MOSFET Source. Connect to source of the external MOSFET.", 9 HSGATE (out) "HSGATE (Pin 9): External Hot Swap MOSFET Gate Control, Output. Connect to gate of the external MOSFET.", 10 VPORT (power) "VPORT (Pin 10): PD interface upper power rail and external Hot Swap MOSFET drain connection.", 11 EP (power) "Exposed Pad (Pin 11, DFN Package Only): GND. Must be soldered to PCB GND."

## LT4275BIDD#TRPBF
designator U?
LTPoE++ / PoE+ / PoE PD Controller, 10-pin SON (DD-10), -40 to 85 degC, Pb-Free, Tape and Reel; Manufacturer: Linear Technology; PartNumber: LT4275BIDD#TRPBF; Channels(#): 1; Extended Temp: I, H; Max Power(W): 90; PoE Type: 1, 2, LTPoE++; PackageVersion: Rev. C, 06/2010; PackageReference: DD-10; PackageDescription: 10-Pin Plastic DFN, Body 3 x 3 mm, Pitch 0.5 mm; Supplier 1: Digi-Key; Supplier Part Number 1: LT4275BIDD#TRPBF-ND; Supplier 2: Newark; Supplier Part Number 2: 27W9574; Packing: Tape and Reel; PSE/PD: PD; RoHS: TRUE; Mounting Technology: Surface Mount; Code_JEDEC: MO-229; ComponentLink1Description: Manufacturer URL; ComponentLink1URL: http://www.linear.com/; ComponentLink2Description: Datasheet; ComponentLink2URL: http://cds.linear.com/docs/en/datasheet/4275f.pdf; ComponentLink3Description: Package Specification; ComponentLink3URL: http://cds.linear.com/docs/en/packaging/DFN_10_05-08-1699.pdf
footprint LT-DD-10_V (SON, 10-Leads, Body 3x3mm, Pitch 0.5mm, Thermal Pad 2.38x1.65mm)
pins: 1 ~{IEEEUVLO} (in) "I\E\E\E\U\V\L\O\ (Pin 1): Hot Swap Turn-on Threshold Level Control. Connect to ground for IEEE compliant turn-on and turn-off (UVLO) voltage thresholds. Leave open for lower turn-on and turn-off voltage thresholds.", 2 AUX (in) "AUX (Pin 2): Auxiliary Sense. Assert AUX via a resistive divider from the auxiliary power input to set the voltage at which the auxiliary supply takes over. Asserting AUX pulls down HSGATE, disconnects the signature (See Datasheet)", 3 RCLASS (in) "RCLASS (Pin 3): Programmable PoE Classification Resistor. See Table 1.", 4 RCLASS++/NC (in) "RCLASS++ (Pin 4, LT4275A Only): Programmable LTPoE++ Classification Resistor. This pin is not connected on the LT4275B/LT4275C. See Table 1.", 5 GND (power) "GND (Pin 5): Ground Pin. Must be soldered to PCB GND.", 6 ~{T2P}/NC (oc) "T\2\P\ (Pin 6, LT4275A/LT4275B Only): PSE Type Indicator, Open-Drain Output. T\2\P\ floats for a 13W PSE. T\2\P\ pulls down for a 25.5W PSE. T\2\P\ pulls down at fT\2\P\ with a 50% (typical) duty cycle to indicate the (See Datasheet)", 7 PWRGD (oc) "PWRGD (Pin 7): Power Good Indicator, Open-Drain Output. Pulls down during VCLASS and inrush.", 8 HSSRC "HSSRC (Pin 8): External Hot Swap MOSFET Source. Connect to source of the external MOSFET.", 9 HSGATE (out) "HSGATE (Pin 9): External Hot Swap MOSFET Gate Control, Output. Connect to gate of the external MOSFET.", 10 VPORT (power) "VPORT (Pin 10): PD interface upper power rail and external Hot Swap MOSFET drain connection.", 11 EP (power) "Exposed Pad (Pin 11, DFN Package Only): GND. Must be soldered to PCB GND."

## LT4275BIMS#PBF
designator U?
LTPoE++ / PoE+ / PoE PD Controller, 10-pin SOP (MS-10), -40 to 85 degC, Pb-Free; Manufacturer: Linear Technology; PartNumber: LT4275BIMS#PBF; Channels(#): 1; Extended Temp: I, H; Max Power(W): 90; PoE Type: 1, 2, LTPoE++; PackageVersion: Rev. E, 06/2010; PackageReference: MS-10; PackageDescription: 10-Pin Plastic MSOP, Body 3 x 3 mm, Pitch 0.5 mm; Supplier 1: Digi-Key; Supplier Part Number 1: LT4275BIMS#PBF-ND; Supplier 2: Farnell; Supplier Part Number 2: 2148744; Supplier 3: Newark; Supplier Part Number 3: 27W9575; PSE/PD: PD; RoHS: TRUE; Mounting Technology: Surface Mount; ComponentLink1Description: Manufacturer URL; ComponentLink1URL: http://www.linear.com/; ComponentLink2Description: Datasheet; ComponentLink2URL: http://cds.linear.com/docs/en/datasheet/4275f.pdf; ComponentLink3Description: Package Specification; ComponentLink3URL: http://cds.linear.com/docs/en/packaging/05081661_F_MS.pdf
footprint LT-MS-10_N (SOP, 10-Leads, Body 3.1x3.1mm, Pitch 0.5mm, IPC Medium Density)
footprint LT-MS-10_L (SOP, 10-Leads, Body 3.1x3.1mm, Pitch 0.5mm, IPC High Density)
footprint LT-MS-10_M (SOP, 10-Leads, Body 3.1x3.1mm, Pitch 0.5mm, IPC Low Density)
pins: 1 ~{IEEEUVLO} (in) "IEEEUVLO (Pin 1): Hot Swap Turn-on Threshold Level Control. Connect to ground for IEEE compliant turn-on and turn-off (UVLO) voltage thresholds. Leave open for lower turn-on and turn-off voltage thresholds.", 2 AUX (in) "AUX (Pin 2): Auxiliary Sense. Assert AUX via a resistive divider from the auxiliary power input to set the voltage at which the auxiliary supply takes over. Asserting AUX pulls down HSGATE, disconnects the signature (See Datasheet)", 3 RCLASS (in) "RCLASS (Pin 3): Programmable PoE Classification Resistor. See Table 1.", 4 RCLASS++/NC (in) "RCLASS++ (Pin 4, LT4275A Only): Programmable LTPoE++ Classification Resistor. This pin is not connected on the LT4275B/LT4275C. See Table 1.", 5 GND (power) "GND (Pin 5): Ground Pin. Must be soldered to PCB GND.", 6 ~{T2P}/NC (oc) "T\2\P\ (Pin 6, LT4275A/LT4275B Only): PSE Type Indicator, Open-Drain Output. T\2\P\ floats for a 13W PSE. T\2\P\ pulls down for a 25.5W PSE. T\2\P\ pulls down at fT\2\P\ with a 50% (typical) duty cycle to indicate the (See Datasheet)", 7 PWRGD (oc) "PWRGD (Pin 7): Power Good Indicator, Open-Drain Output. Pulls down during VCLASS and inrush.", 8 HSSRC "HSSRC (Pin 8): External Hot Swap MOSFET Source. Connect to source of the external MOSFET.", 9 HSGATE (out) "HSGATE (Pin 9): External Hot Swap MOSFET Gate Control, Output. Connect to gate of the external MOSFET.", 10 VPORT (power) "VPORT (Pin 10): PD interface upper power rail and external Hot Swap MOSFET drain connection."

## LT4275BIMS#TRPBF
designator U?
LTPoE++ / PoE+ / PoE PD Controller, 10-pin SOP (MS-10), -40 to 85 degC, Pb-Free, Tape and Reel; Manufacturer: Linear Technology; PartNumber: LT4275BIMS#TRPBF; Channels(#): 1; Extended Temp: I, H; Max Power(W): 90; PoE Type: 1, 2, LTPoE++; PackageVersion: Rev. E, 06/2010; PackageReference: MS-10; PackageDescription: 10-Pin Plastic MSOP, Body 3 x 3 mm, Pitch 0.5 mm; Supplier 1: Digi-Key; Supplier Part Number 1: LT4275BIMS#TRPBF-ND; Supplier 2: Newark; Supplier Part Number 2: 27W9576; Packing: Tape and Reel; PSE/PD: PD; RoHS: TRUE; Mounting Technology: Surface Mount; ComponentLink1Description: Manufacturer URL; ComponentLink1URL: http://www.linear.com/; ComponentLink2Description: Datasheet; ComponentLink2URL: http://cds.linear.com/docs/en/datasheet/4275f.pdf; ComponentLink3Description: Package Specification; ComponentLink3URL: http://cds.linear.com/docs/en/packaging/05081661_F_MS.pdf
footprint LT-MS-10_N (SOP, 10-Leads, Body 3.1x3.1mm, Pitch 0.5mm, IPC Medium Density)
footprint LT-MS-10_L (SOP, 10-Leads, Body 3.1x3.1mm, Pitch 0.5mm, IPC High Density)
footprint LT-MS-10_M (SOP, 10-Leads, Body 3.1x3.1mm, Pitch 0.5mm, IPC Low Density)
pins: 1 ~{IEEEUVLO} (in) "IEEEUVLO (Pin 1): Hot Swap Turn-on Threshold Level Control. Connect to ground for IEEE compliant turn-on and turn-off (UVLO) voltage thresholds. Leave open for lower turn-on and turn-off voltage thresholds.", 2 AUX (in) "AUX (Pin 2): Auxiliary Sense. Assert AUX via a resistive divider from the auxiliary power input to set the voltage at which the auxiliary supply takes over. Asserting AUX pulls down HSGATE, disconnects the signature (See Datasheet)", 3 RCLASS (in) "RCLASS (Pin 3): Programmable PoE Classification Resistor. See Table 1.", 4 RCLASS++/NC (in) "RCLASS++ (Pin 4, LT4275A Only): Programmable LTPoE++ Classification Resistor. This pin is not connected on the LT4275B/LT4275C. See Table 1.", 5 GND (power) "GND (Pin 5): Ground Pin. Must be soldered to PCB GND.", 6 ~{T2P}/NC (oc) "T\2\P\ (Pin 6, LT4275A/LT4275B Only): PSE Type Indicator, Open-Drain Output. T\2\P\ floats for a 13W PSE. T\2\P\ pulls down for a 25.5W PSE. T\2\P\ pulls down at fT\2\P\ with a 50% (typical) duty cycle to indicate the (See Datasheet)", 7 PWRGD (oc) "PWRGD (Pin 7): Power Good Indicator, Open-Drain Output. Pulls down during VCLASS and inrush.", 8 HSSRC "HSSRC (Pin 8): External Hot Swap MOSFET Source. Connect to source of the external MOSFET.", 9 HSGATE (out) "HSGATE (Pin 9): External Hot Swap MOSFET Gate Control, Output. Connect to gate of the external MOSFET.", 10 VPORT (power) "VPORT (Pin 10): PD interface upper power rail and external Hot Swap MOSFET drain connection."

## LT4275CHDD#PBF
designator U?
LTPoE++ / PoE+ / PoE PD Controller, 10-pin SON (DD-10), -40 to 125 degC, Pb-Free; Manufacturer: Linear Technology; PartNumber: LT4275CHDD#PBF; Channels(#): 1; Extended Temp: I, H; Max Power(W): 90; PoE Type: 1, 2, LTPoE++; PackageVersion: Rev. C, 06/2010; PackageReference: DD-10; PackageDescription: 10-Pin Plastic DFN, Body 3 x 3 mm, Pitch 0.5 mm; Supplier 1: Digi-Key; Supplier Part Number 1: LT4275CHDD#PBF-ND; Supplier 2: Newark; Supplier Part Number 2: 27W9577; PSE/PD: PD; RoHS: TRUE; Mounting Technology: Surface Mount; Code_JEDEC: MO-229; ComponentLink1Description: Manufacturer URL; ComponentLink1URL: http://www.linear.com/; ComponentLink2Description: Datasheet; ComponentLink2URL: http://cds.linear.com/docs/en/datasheet/4275f.pdf; ComponentLink3Description: Package Specification; ComponentLink3URL: http://cds.linear.com/docs/en/packaging/DFN_10_05-08-1699.pdf
footprint LT-DD-10_V (SON, 10-Leads, Body 3x3mm, Pitch 0.5mm, Thermal Pad 2.38x1.65mm)
pins: 1 ~{IEEEUVLO} (in) "I\E\E\E\U\V\L\O\ (Pin 1): Hot Swap Turn-on Threshold Level Control. Connect to ground for IEEE compliant turn-on and turn-off (UVLO) voltage thresholds. Leave open for lower turn-on and turn-off voltage thresholds.", 2 AUX (in) "AUX (Pin 2): Auxiliary Sense. Assert AUX via a resistive divider from the auxiliary power input to set the voltage at which the auxiliary supply takes over. Asserting AUX pulls down HSGATE, disconnects the signature (See Datasheet)", 3 RCLASS (in) "RCLASS (Pin 3): Programmable PoE Classification Resistor. See Table 1.", 4 RCLASS++/NC (in) "RCLASS++ (Pin 4, LT4275A Only): Programmable LTPoE++ Classification Resistor. This pin is not connected on the LT4275B/LT4275C. See Table 1.", 5 GND (power) "GND (Pin 5): Ground Pin. Must be soldered to PCB GND.", 6 ~{T2P}/NC (oc) "T\2\P\ (Pin 6, LT4275A/LT4275B Only): PSE Type Indicator, Open-Drain Output. T\2\P\ floats for a 13W PSE. T\2\P\ pulls down for a 25.5W PSE. T\2\P\ pulls down at fT\2\P\ with a 50% (typical) duty cycle to indicate the (See Datasheet)", 7 PWRGD (oc) "PWRGD (Pin 7): Power Good Indicator, Open-Drain Output. Pulls down during VCLASS and inrush.", 8 HSSRC "HSSRC (Pin 8): External Hot Swap MOSFET Source. Connect to source of the external MOSFET.", 9 HSGATE (out) "HSGATE (Pin 9): External Hot Swap MOSFET Gate Control, Output. Connect to gate of the external MOSFET.", 10 VPORT (power) "VPORT (Pin 10): PD interface upper power rail and external Hot Swap MOSFET drain connection.", 11 EP (power) "Exposed Pad (Pin 11, DFN Package Only): GND. Must be soldered to PCB GND."

## LT4275CHDD#TRPBF
designator U?
LTPoE++ / PoE+ / PoE PD Controller, 10-pin SON (DD-10), -40 to 125 degC, Pb-Free, Tape and Reel; Manufacturer: Linear Technology; PartNumber: LT4275CHDD#TRPBF; Channels(#): 1; Extended Temp: I, H; Max Power(W): 90; PoE Type: 1, 2, LTPoE++; PackageVersion: Rev. C, 06/2010; PackageReference: DD-10; PackageDescription: 10-Pin Plastic DFN, Body 3 x 3 mm, Pitch 0.5 mm; Supplier 1: Digi-Key; Supplier Part Number 1: LT4275CHDD#TRPBF-ND; Supplier 2: Newark; Supplier Part Number 2: 27W9578; Packing: Tape and Reel; PSE/PD: PD; RoHS: TRUE; Mounting Technology: Surface Mount; Code_JEDEC: MO-229; ComponentLink1Description: Manufacturer URL; ComponentLink1URL: http://www.linear.com/; ComponentLink2Description: Datasheet; ComponentLink2URL: http://cds.linear.com/docs/en/datasheet/4275f.pdf; ComponentLink3Description: Package Specification; ComponentLink3URL: http://cds.linear.com/docs/en/packaging/DFN_10_05-08-1699.pdf
footprint LT-DD-10_V (SON, 10-Leads, Body 3x3mm, Pitch 0.5mm, Thermal Pad 2.38x1.65mm)
pins: 1 ~{IEEEUVLO} (in) "I\E\E\E\U\V\L\O\ (Pin 1): Hot Swap Turn-on Threshold Level Control. Connect to ground for IEEE compliant turn-on and turn-off (UVLO) voltage thresholds. Leave open for lower turn-on and turn-off voltage thresholds.", 2 AUX (in) "AUX (Pin 2): Auxiliary Sense. Assert AUX via a resistive divider from the auxiliary power input to set the voltage at which the auxiliary supply takes over. Asserting AUX pulls down HSGATE, disconnects the signature (See Datasheet)", 3 RCLASS (in) "RCLASS (Pin 3): Programmable PoE Classification Resistor. See Table 1.", 4 RCLASS++/NC (in) "RCLASS++ (Pin 4, LT4275A Only): Programmable LTPoE++ Classification Resistor. This pin is not connected on the LT4275B/LT4275C. See Table 1.", 5 GND (power) "GND (Pin 5): Ground Pin. Must be soldered to PCB GND.", 6 ~{T2P}/NC (oc) "T\2\P\ (Pin 6, LT4275A/LT4275B Only): PSE Type Indicator, Open-Drain Output. T\2\P\ floats for a 13W PSE. T\2\P\ pulls down for a 25.5W PSE. T\2\P\ pulls down at fT\2\P\ with a 50% (typical) duty cycle to indicate the (See Datasheet)", 7 PWRGD (oc) "PWRGD (Pin 7): Power Good Indicator, Open-Drain Output. Pulls down during VCLASS and inrush.", 8 HSSRC "HSSRC (Pin 8): External Hot Swap MOSFET Source. Connect to source of the external MOSFET.", 9 HSGATE (out) "HSGATE (Pin 9): External Hot Swap MOSFET Gate Control, Output. Connect to gate of the external MOSFET.", 10 VPORT (power) "VPORT (Pin 10): PD interface upper power rail and external Hot Swap MOSFET drain connection.", 11 EP (power) "Exposed Pad (Pin 11, DFN Package Only): GND. Must be soldered to PCB GND."